# Altium schematic symbol library Schematic Library.SchLib: 16 symbols
Pins are listed as number, name and electrical type; pins without a type are passive.

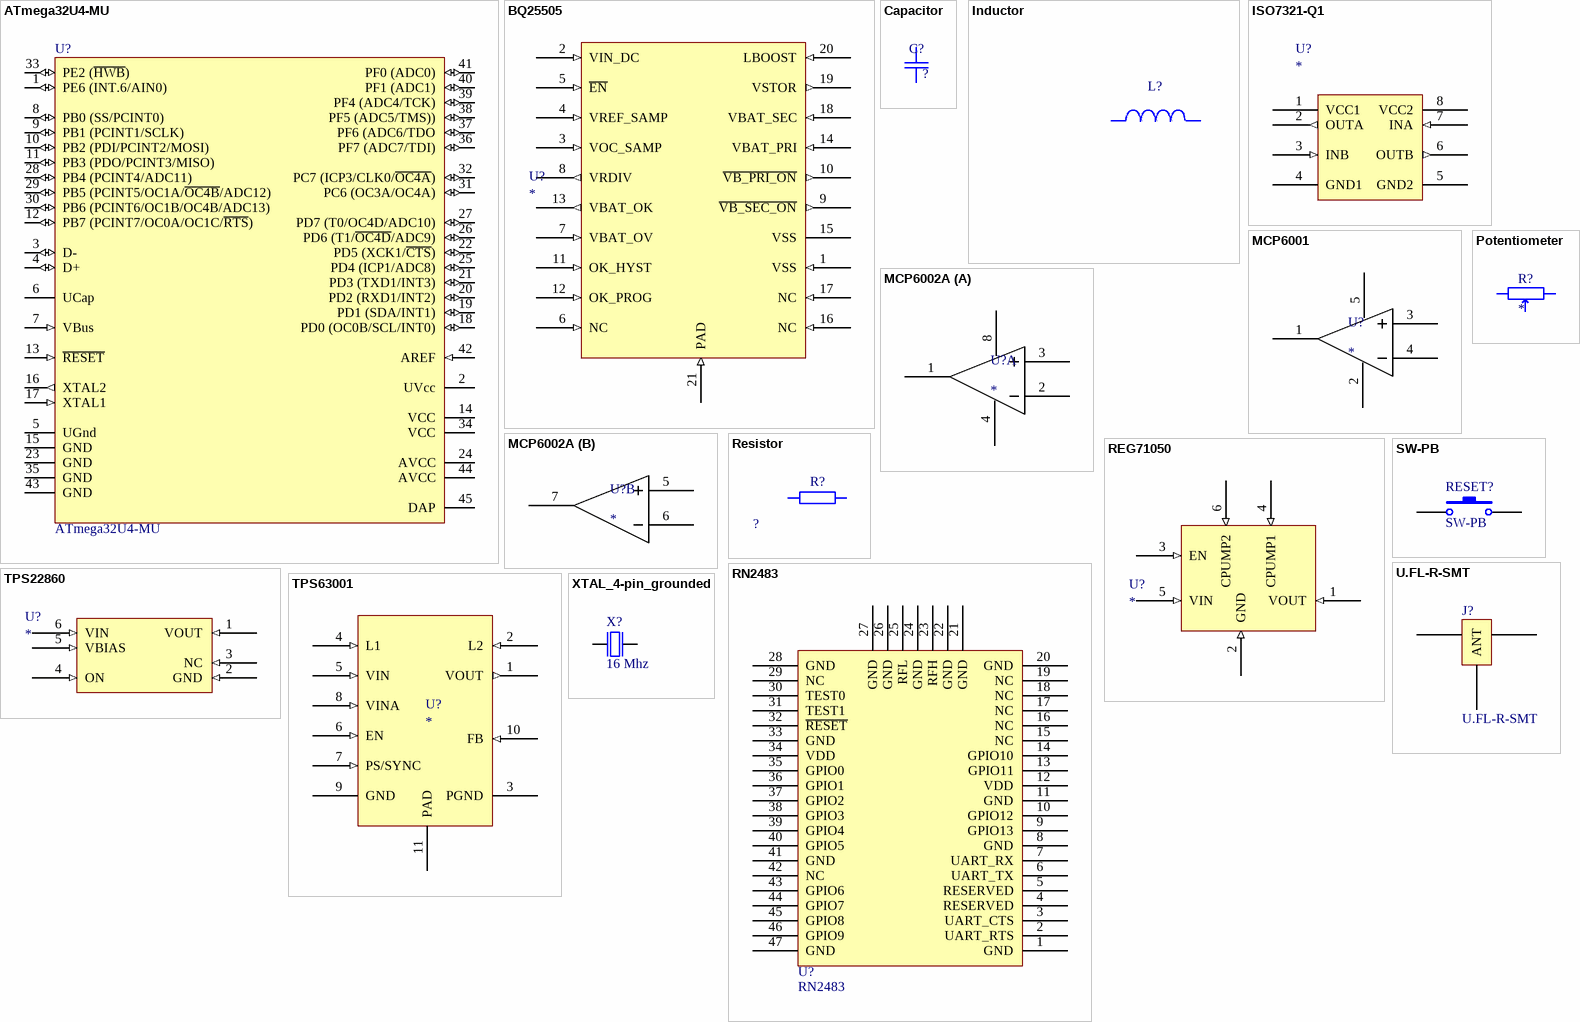
[diagram p0: symbols ATmega32U4-MU to XTAL_4-pin_grounded]

## ATmega32U4-MU
designator U?
8-bit AVR Microcontroller, 2.7-5.5V, 32KB Flash, 2.5KB EEPROM, 1KB SRAM, USB Controller, 44-pin QFN, Industrial Grade (-40°C to 85°C); Published: 1-Apr-2010; DatasheetVersion: revD, Jan-2009; PackageVersion: revF, Jul-2007; PackageReference: 44PW; Publisher: Altium Limited; PackageDescription: 44-Pin Quad Flat No-Lead Package, 7 x 7 mm Body, 0.5 mm Pitch (QFN); Supplier 1: Digi-Key; Supplier Part Number 1: ATMEGA32U4-MU-ND; Supplier 2: Mouser; Supplier Part Number 2: 556-ATMEGA32U4-MU; Code_JEDEC: MO-220-VKKD-1; ComponentLink1Description: Manufacturer Link; ComponentLink1URL: http://www.atmel.com/products/avr/default.asp?; ComponentLink2Description: ATmega16U4/32U4 Datasheet; ComponentLink2URL: http://www.atmel.com/dyn/resources/prod_documents/doc7766.pdf; ComponentLink3Description: ATmega16U4 ATmega32U4 Summary; ComponentLink3URL: http://www.atmel.com/dyn/resources/prod_documents/7766S.pdf; ComponentLink4Description: Atmel.com Home; ComponentLink4URL: http://www.atmel.com
footprint 44PW_N (QFN, 44-Leads, Body 7x7mm, Pitch 0.5mm, IPC Medium Density)
footprint 44PW_L (QFN, 44-Leads, Body 7x7mm, Pitch 0.5mm, IPC High Density)
footprint 44PW_M (QFN, 44-Leads, Body 7x7mm, Pitch 0.5mm, IPC Low Density)
pins: 1 PE6 (INT.6/AIN0) (io), 2 UVcc (power), 3 D- (io), 4 D+ (io), 5 UGnd (power), 6 UCap, 7 VBus (in), 8 PB0 (SS/PCINT0) (io), 9 PB1 (PCINT1/SCLK) (io), 10 PB2 (PDI/PCINT2/MOSI) (io), 11 PB3 (PDO/PCINT3/MISO) (io), 12 PB7 (PCINT7/OC0A/OC1C/~{RTS}) (io), 13 ~{RESET} (in), 14 VCC (power), 15 GND (power), 16 XTAL2 (out), 17 XTAL1 (in), 18 PD0 (OC0B/SCL/INT0) (io), 19 PD1 (SDA/INT1) (io), 20 PD2 (RXD1/INT2) (io), 21 PD3 (TXD1/INT3) (io), 22 PD5 (XCK1/~{CTS}) (io), 23 GND (power), 24 AVCC (power), 25 PD4 (ICP1/ADC8) (io), 26 PD6 (T1/~{OC4D}/ADC9) (io), 27 PD7 (T0/OC4D/ADC10) (io), 28 PB4 (PCINT4/ADC11) (io), 29 PB5 (PCINT5/OC1A/~{OC4B}/ADC12) (io), 30 PB6 (PCINT6/OC1B/OC4B/ADC13) (io), 31 PC6 (OC3A/OC4A) (io), 32 PC7 (ICP3/CLK0/~{OC4A}) (io), 33 PE2 (~{HWB}) (io), 34 VCC (power), 35 GND (power), 36 PF7 (ADC7/TDI) (io), 37 PF6 (ADC6/TDO (io), 38 PF5 (ADC5/TMS)) (io), 39 PF4 (ADC4/TCK) (io), 40 PF1 (ADC1) (io), 41 PF0 (ADC0) (io), 42 AREF (in), 43 GND (power), 44 AVCC (power), 45 DAP (power)

## BQ25505
designator U?
footprint S-PVQFN-N20 (PQFN, 20-Leads, Body 3,50x3,50mm, Pitch 0,50mm, Thermal Pad 2,05x2,05mm, IPC Medium Density)
pins: 1 VSS (in), 2 VIN_DC (in), 3 VOC_SAMP (in), 4 VREF_SAMP (in), 5 ~{EN} (in), 6 NC (in), 7 VBAT_OV (in), 8 VRDIV (out), 9 ~{VB_SEC_ON} (out), 10 ~{VB_PRI_ON} (out), 11 OK_HYST (in), 12 OK_PROG (in), 13 VBAT_OK (out), 14 VBAT_PRI (in), 15 VSS (power), 16 NC (in), 17 NC (in), 18 VBAT_SEC (in), 19 VSTOR (out), 20 LBOOST (in), 21 PAD (in)

## Capacitor
designator C?
Voltage: 16V; Tolerance: 10%; Package: 0603; Value: ?
footprint 0603
pins: 1, 2

## Inductor
designator L?
pins: 1, 2

## ISO7321-Q1
designator U?
pins: 1 VCC1 (power), 2 OUTA (out), 3 INB (in), 4 GND1 (power), 5 GND2 (power), 6 OUTB (out), 7 INA (in), 8 VCC2 (power)

## MCP6001
designator U?
pins: 1, 2, 3, 4, 5

## MCP6002A
designator U?
part A pins: 1, 2, 3, 4, 8
part B pins: 5, 6, 7

## Potentiometer
designator R?
pins: 1, 2, 3

## REG71050
designator U?
Reguator 5V
footprint DBV PSOP (TSOP, 6-Leads, Body 2,90x1,60mm, Pitch 0,95mm, IPC Low Density)
pins: 1 VOUT (in), 2 GND (in), 3 EN (in), 4 CPUMP1 (in), 5 VIN (in), 6 CPUMP2 (in)

## Resistor
designator R?
Tolerance: 1%; Power Rating: 1/4W; Package: 0602; Value: ?
footprint Res0603 (Chip Resistor, 2-Leads, Body 1,60x1,25mm, IPC Low Density)
pins: 1, 2

## RN2483
designator U?
footprint RN2483 - duplicate
pins: 1 GND, 2 UART_RTS, 3 UART_CTS, 4 RESERVED, 5 RESERVED, 6 UART_TX, 7 UART_RX, 8 GND, 9 GPIO13, 10 GPIO12, 11 GND, 12 VDD, 13 GPIO11, 14 GPIO10, 15 NC, 16 NC, 17 NC, 18 NC, 19 NC, 20 GND, 21 GND, 22 GND, 23 RFH, 24 GND, 25 RFL, 26 GND, 27 GND, 28 GND, 29 NC, 30 TEST0, 31 TEST1, 32 ~{RESET}, 33 GND, 34 VDD, 35 GPIO0, 36 GPIO1, 37 GPIO2, 38 GPIO3, 39 GPIO4, 40 GPIO5, 41 GND, 42 NC, 43 GPIO6, 44 GPIO7, 45 GPIO8, 46 GPIO9, 47 GND

## SW-PB
designator RESET?
Switch; Published: 24-Mar-1999; LatestRevisionDate: 17-Jul-2002; LatestRevisionNote: Re-released for DXP Platform.; PackageReference: SPST-2; Publisher: Altium Limited; PackageDescription: Switch; 2 Leads
footprint SPST-2 (Switch; 2 Leads)
footprint BUTTON
pins: 1, 2

## TPS22860
designator U?
Load switch; ComponentLink1Description: datasheet; ComponentLink1URL: http://www.ti.com/lit/ds/symlink/tps22860.pdf
footprint DBV PSOP (TSOP, 6-Leads, Body 2,90x1,60mm, Pitch 0,95mm, IPC Low Density)
pins: 1 VOUT (in), 2 GND (in), 3 NC (in), 4 ON (in), 5 VBIAS (in), 6 VIN (in)

## TPS63001
designator U?
pins: 1 VOUT (out), 2 L2 (in), 3 PGND (power), 4 L1 (in), 5 VIN (in), 6 EN (in), 7 PS/SYNC (in), 8 VINA (in), 9 GND (power), 10 FB (in), 11 PAD (power)

## U.FL-R-SMT
designator J?
footprint U.FL-R-SMT
pins: 1 ANT, 2 GND (power), 3 GND (power)

## XTAL_4-pin_grounded
designator X?, comment 16 Mhz
XTAL SMD 2520, 16MHz, 8pF, ±15ppm; Part Number: NX2520SA-16MHZ-STD-CSW-5; Manufacturer: NDK; Value: 8MHz; Note: XTAL SMD 16.000MHz; Artikkelnr Noca: 22019192; Artikkelnr Simpro: N.A.; Manufacturer Part Number: NX2520SA-16MHZ-STD-CSW-5; Datasheet: http://www.ndk.com/images/products/catalog/c_NX2520SA-STD-CSW-5_e.pdf; LatestRevisionDate: 2012-06-15; Pin Count: 4; Publisher: Nordic Semiconductor; Published: 2012-06-15; Supplier: Digi-Key; Supplier part number: 644-1169-1-ND; 2nd source Supplier: *; 2nd source part number: *; Footprint Doc: BT-XTAL_2520
footprint BT-XTAL_2520
footprint BT-XTAL_2520
footprint BT-XTAL_2520
footprint Crystal - ABM3B (5x3.5 mm 8 Mhz Crystal: ABRACON ABM3B)
pins: 1 inp, 2 GND hidden to GND, 3 out, 4 GND hidden to GND